# EAGLE library part 1X13 (library PiB_connectors)
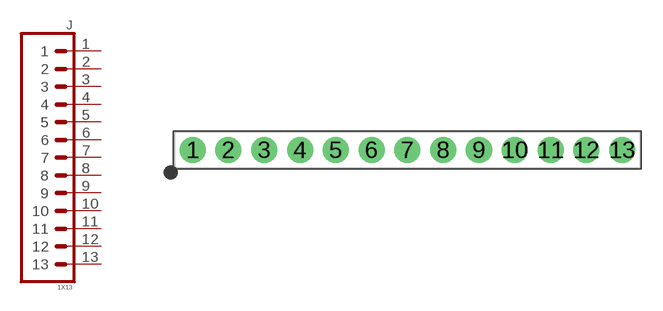
[diagram p19: symbol with the pads of HDRV13W64P254_1X13_3302X254X838B; footprint HDRV13W64P254_1X13_3302X254X838B]

Designator prefix J

## 1X13_PTH_VERT_MALE_2.54MM (DATASHEET: https://drawings-pdf.s3.amazonaws.com/C10436.pdf; DIST: Digikey; DISTLINK: https://www.digikey.com/products/en?keywords=S1012E-13-ND; DISTPN: S1012E-13-ND; MFR: Sullins Connector Solutions; MPN: PEC13SAAN; VALUE: PTH VERT MALE)  [HDRV13W64P254_1X13_3302X254X838B]
1  1  pas
2  2  pas
3  3  pas
4  4  pas
5  5  pas
6  6  pas
7  7  pas
8  8  pas
9  9  pas
10  10  pas
11  11  pas
12  12  pas
13  13  pas

## Footprint HDRV13W64P254_1X13_3302X254X838B (pad centres in mm)
Single-row, 13-pin Pin Header (Male) Straight, 2.54 mm (0.10 in) col pitch, 5.84 mm mating length, 33.02 X 2.54 X 8.38 mm body Single-row (1X13), 13-pin Pin Header (Male) Straight package with 2.54 mm (0.10 in) col pitch, 0.64 mm lead width, 3.05 mm tail length and 5.84 mm mating length with overall size 33.02 X 2.54 X 8.38 mm, pin pattern - zigzag from bottom left
drill 1 pad 1.85: 1 -15.24,0; 2 -12.7,0; 3 -10.16,0; 4 -7.62,0; 5 -5.08,0; 6 -2.54,0; 7 0,0; 8 2.54,0; 9 5.08,0; 10 7.62,0; 11 10.16,0; 12 12.7,0; 13 15.24,0